# Altium schematic symbol library RF_Inductor.SchLib: 2 symbols
Pins are listed as number, name and electrical type; pins without a type are passive.

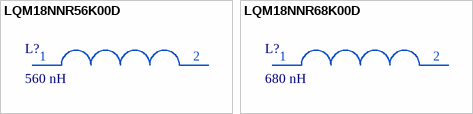
[diagram p0: symbols LQM18NNR56K00D to LQM18NNR68K00D]

## LQM18NNR56K00D
designator L?, comment 560 nH
RF Inductors; PartNumber: LQM18NNR56K00D; Manufacturer: Murata; Tolerance: ± 5 %; Q: 15; Self resonance frequency: 95 MHz; RDC: 1.55 Ohm; Package: 0603; Value: 560 nH; Value on schem: 560 nH
footprint L0603_LQM (RF Inductor 0603)
pins: 1, 2

## LQM18NNR68K00D
designator L?, comment 680 nH
RF Inductors; PartNumber: LQM18NNR68K00D; Manufacturer: Murata; Tolerance: ± 5 %; Q: 15; Self resonance frequency: 90 MHz; RDC: 1.7 Ohm; Package: 0603; Value: 680 nH; Value on schem: 680 nH
footprint L0603_LQM (RF Inductor 0603)
pins: 1, 2